# EAGLE library part MCP6L2-X_MS (library microchip2)
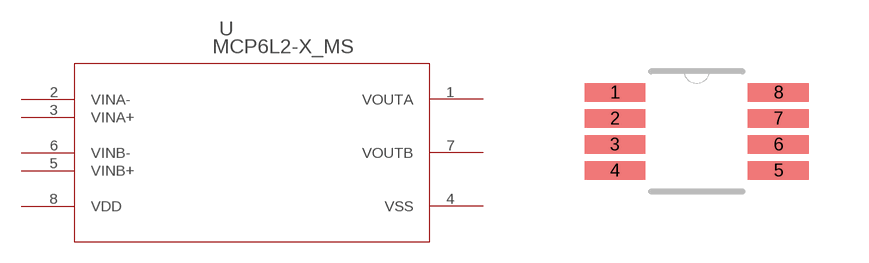
[diagram p6: symbol with the pads of MSOP8_MC; footprint MSOP8_MC]

Designator prefix -

## MCP6L2-X_MS  [MSOP8_MC]
1  VOUTA  pas
2  VINA-  pas
3  VINA+  pas
4  VSS  pwr
5  VINB+  pas
6  VINB-  pas
7  VOUTB  pas
8  VDD  pwr

## Footprint MSOP8_MC (pad centres in mm)
smd 1.524 x 0.457: 1 -2.044,0.975; 2 -2.044,0.325; 3 -2.044,-0.325; 4 -2.044,-0.975; 5 2.044,-0.975; 6 2.044,-0.325; 7 2.044,0.325; 8 2.044,0.975